# EAGLE library part SN74LVC1G175DBVR (library eDNA)
D Flipflop with clear - https://www.digikey.com/product-detail/en/texas-instruments/SN74LVC1G175DBVR/296-17617-1-ND/706599
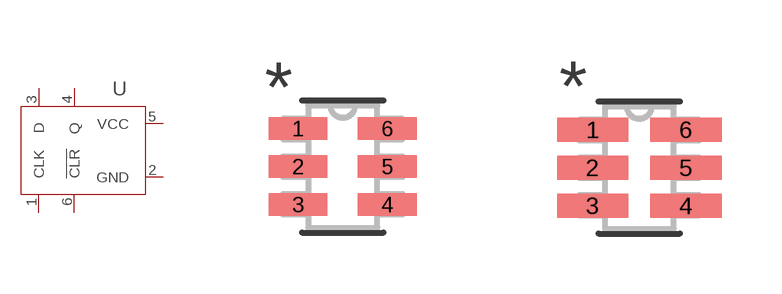
[diagram p9: symbol with the pads of DBV6; footprints DBV6, DBV6-M]

Designator prefix U

## SN74LVC1G175DBVR (MANUFACTURER_PART_NUMBER: SN74LVC1G175DBVR; VENDOR: Texas Instruments)  [DBV6]
1  CLK  in
2  GND  pwr
3  D  in
4  Q  out
5  VCC  pwr
6  !CLR  in

## SN74LVC1G175DBVRDBV6-M (MANUFACTURER_PART_NUMBER: SN74LVC1G175DBVR; VENDOR: Texas Instruments)  [DBV6-M]
Pads as for DBV6

## SN74LVC1G175DBVRDBV6-L (MANUFACTURER_PART_NUMBER: SN74LVC1G175DBVR; VENDOR: Texas Instruments)  [DBV6-L]
Pads as for DBV6

## Footprint DBV6 (pad centres in mm)
smd 1.473 x 0.559: 1 -1.118,0.95; 2 -1.118,0; 3 -1.118,-0.95; 4 1.118,-0.95; 5 1.118,0; 6 1.118,0.95

## Footprint DBV6-M (pad centres in mm)
smd 1.778 x 0.61: 1 -1.168,0.95; 2 -1.168,0; 3 -1.168,-0.95; 4 1.168,-0.95; 5 1.168,0; 6 1.168,0.95

## Footprint DBV6-L (pad centres in mm)
smd 1.168 x 0.508: 1 -1.067,0.95; 2 -1.067,0; 3 -1.067,-0.95; 4 1.067,-0.95; 5 1.067,0; 6 1.067,0.95